# Altium schematic symbol library Sensor_1.SchLib: 17 symbols
Pins are listed as number, name and electrical type; pins without a type are passive.

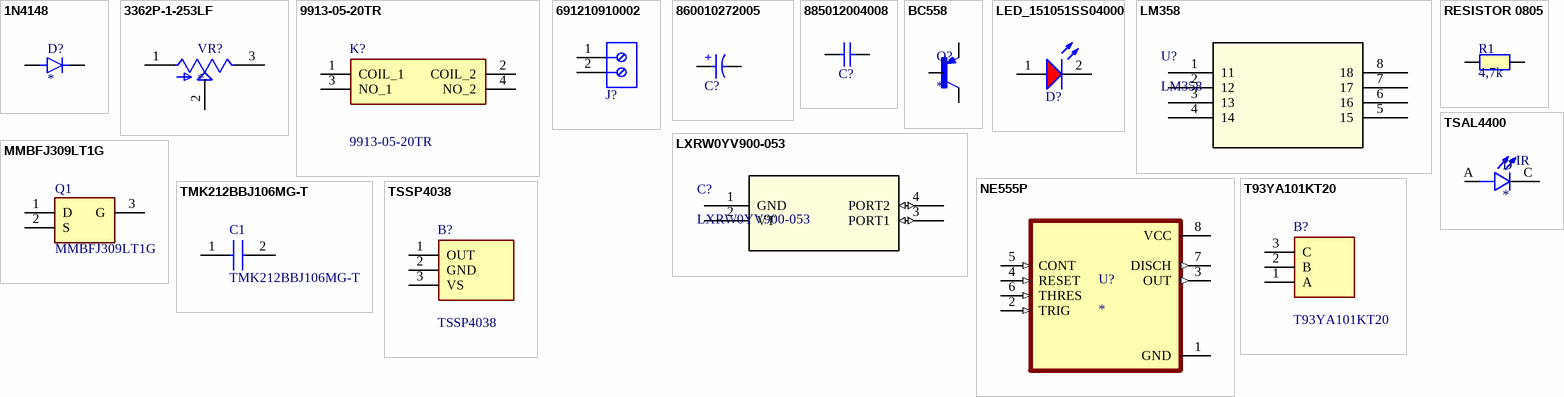
[diagram p0: symbols 1N4148 to TSSP4038]

## 1N4148
designator D?
Diode Standard 75V 200mA Surface Mount SOD-523F; MP: 1N4148; MF: ON Semiconductor; Price: None; Availability: In Stock; Package: AXIAL LEAD-2 ON Semiconductor; Value: *; SnapEDA_Link: https://www.snapeda.com/parts/1N4148/Onsemi/view-part/?ref=snap; Purchase-URL: https://pricing.snapeda.com/search/part/1N4148/?ref=eda; Check_prices: https://www.snapeda.com/parts/1N4148/Onsemi/view-part/?ref=eda
footprint DIOAD829W49L456D191
pins: A, C

## 3362P-1-253LF
designator VR?
25 kOhms 0.5W, 1/2W PC Pins Through Hole Trimmer Potentiometer Cermet 1 Turn Top Adjustment; MF: Bourns; MP: 3362P-1-253LF; Check_prices: https://www.snapeda.com/parts/3362P-1-253LF/Bourns/view-part/493663/?ref=eda; SnapEDA_Link: https://www.snapeda.com/parts/3362P-1-253LF/Bourns/view-part/493663/?ref=snap; Availability: Good; Value: *; Purchase-URL: https://pricing.snapeda.com/search/part/3362P-1-253LF/?ref=eda; Price: None; Package: 3116 Bourns
footprint TRIM_3362P-1-253LF
pins: 1 CCW, 2 WIPER, 3 CW

## 9913-05-20TR
designator K?
RELAY STANDARD REED, 5V, 200 OHMS, J FORM, TR. / TAPE-REEL; Manufacturer_Name: Coto Technology; Geometry.Height: 3.61mm; Mouser Part Number: 816-9913-05-20TR; Mouser Price/Stock: https://www.mouser.co.uk/ProductDetail/Coto-Technology/9913-05-20TR?qs=BJlw7L4Cy7%2Ft0vFUsUT%2FEw%3D%3D; Manufacturer_Part_Number: 9913-05-20TR; Datasheet Link: https://componentsearchengine.com/Datasheets/1/9913-05-20TR.pdf
footprint 99130520TR
pins: 1 COIL_1, 2 COIL_2, 3 NO_1, 4 NO_2

## 691210910002
designator J?  (value not drawn)
WR-TBL Series 2109 Horizontal Entry, THT, pitch 2.54mm, 2p; Manufacturer: Wurth Elektronik; Modularity: No; Rated Current: 6A; Working Voltage: 150V; ComponentLink1Description: Website Link; ComponentLink1URL: https://www.we-online.com/redexpert/article/691210910002?ad; ComponentLink2Description: Datasheet Link; ComponentLink2URL: https://www.we-online.com/redexpert/spec/691210910002?ad; Manufacturer Part Number: 691210910002; Category: Terminal Blocks; Match Code: WR-TBL; Mount: Through Hole; Operating Temperature Max: 105°C; Operating Temperature Min: -40°C; Packaging: Box; Application: Rising Cage Clamp; Number of Pins: 2; Number of Rows: 1; Orientation: Horizontal; Pitch: 2.54mm
footprint 691210910002 (2,54mm - modular - green - Horizontal wire entry - Cage clamp - 0,8mm2 wires - 02p)
pins: 1, 2

## 860010272005
designator C?, comment 100µF  (value not drawn)
WCAP-ATG8 Aluminum Electrolytic Capacitor, Radial, THT, D5 x H11mm, 100µF, 10V; Manufacturer Part Number: 860010272005; Manufacturer: Wurth Elektronik; Capacitance Tolerance: +/-20%; Dissipation Factor: 19%; Endurance: 2000h; Leakage Current: 10µA; Ripple Current: 198mA; Technical Reference: ATBC110101M010DSPA3B000; Category: Aluminum Electrolytic Capacitors; Match Code: WCAP-ATG8; ComponentLink1Description: Website Link; ComponentLink1URL: https://www.we-online.com/redexpert/article/860010272005?ad; ComponentLink2Description: Datasheet Link; ComponentLink2URL: https://www.we-online.com/redexpert/spec/860010272005?ad; Mount: Through Hole; Operating Temperature Max: 85°C; Operating Temperature Min: -40°C; Packaging: Ammo Pack; Height: 11mm; Diameter: 5mm; Capacitance: 100µF; Rated Voltage (DC): 10V
footprint WCAP-ATG8_D5H11 (Aluminum Electrolytic Capacitors, 5x11mm)
simulation model 860010272005_100uF
pins: 1 P, 2 N
text: +

## 885012004008
designator C?, comment 22pF  (value not drawn)
WCAP-CSGP Multilayer Ceramic Chip Capacitor, General Purpose, size 0201, NP0 Class I, 22pF, 25VDC; Manufacturer Part Number: 885012004008; Manufacturer: Wurth Elektronik; Case/Size Code: 0201; Capacitance Tolerance: +/-5%; Insulation Resistance: 10GΩ; Q Factor: 840; Rated Voltage (DC): 25V; Technical Reference: NP00201220J025DFCT10000; Category: Multilayer Ceramic Chip Capacitors; Match Code: WCAP-CSGP; ComponentLink1Description: Website Link; ComponentLink1URL: https://www.we-online.com/redexpert/article/885012004008?ad; ComponentLink2Description: Datasheet Link; ComponentLink2URL: https://www.we-online.com/redexpert/spec/885012004008?ad; Mount: Surface Mount; Operating Temperature Max: 125°C; Operating Temperature Min: -55°C; Packaging: Tape and Reel; Length: 0.6mm; Width: 0.3mm; Height: 0.3mm; Capacitance: 22pF; Ceramic Type: NP0 Class I
footprint WCAP-CSGP_0805_L2W1.25H0.8_Wave (Ceramic Capacitors, body 2x1.25mm)
simulation model 0201_885012004008_22pF
pins: 1, 2

## BC558
designator Q?
Bipolar (BJT) Transistor PNP 30 V 100 mA 360MHz 625 mW Through Hole TO-92 (TO-226); MP: BC558; MF: ON; Price: None; Availability: In Stock; Package: TO-226-3 Diotec Semiconductor; SnapEDA_Link: https://www.snapeda.com/parts/BC558/Onsemi/view-part/?ref=snap; Check_prices: https://www.snapeda.com/parts/BC558/Onsemi/view-part/?ref=eda; Value: *; Purchase-URL: https://pricing.snapeda.com/search/part/BC558/?ref=eda
pins: 1 C, 2 B, 3 E

## LED_151051SS04000
designator D?, comment Super Red, 2.1V, 40°  (value not drawn)
WL-TMRC Mono-color Round Color, THT, D5.9 x H8.7mm, Super Red, 2.1V, 40°; Manufacturer Part Number: 151051SS04000; Manufacturer: Wurth Elektronik; Case/Size Code: 5mm; Chip Technology: AlInGaP; Dominant Wavelength: 635nm; Luminous Intensity: 250mcd; Peak Wavelength: 640nm; Category: Signal LEDs; Match Code: WL-TMRC; ComponentLink1Description: Website Link; ComponentLink1URL: https://www.we-online.com/redexpert/article/151051SS04000?ad; ComponentLink2Description: Datasheet Link; ComponentLink2URL: https://www.we-online.com/redexpert/spec/151051SS04000?ad; Mount: Through Hole; Operating Temperature Max: 85°C; Operating Temperature Min: -40°C; Packaging: Bulk; Height: 8.7mm; Diameter: 5.9mm; Emitting Color: Super Red; Forward Voltage: 2.1V; Viewing Angle: 40°
footprint WL-TMRC_D5.9H8.7 (THT Mono-color Round Color LED, 2-leads)
simulation model 5mm_151051SS04000
pins: 1 A, 2 K

## LM358
designator U?
Texas instruments LM358 opamp; Copyright: Copyright (C) 2023 Ultra Librarian. All rights reserved.; Mfr_Name: Texas Instruments; Manufacturer_Part_Number: LM358; RefDes: RefDes; Type: DEV
footprint DIP8_300
pins: 1 11, 2 12, 3 13, 4 14, 5 15, 6 16, 7 17, 8 18

## LXRW0YV900-053
designator C?
Cap trimmer (variable capacitor); Mfr_Name: Murata; Type: DEV; Copyright: Copyright (C) 2023 Ultra Librarian. All rights reserved.; Manufacturer_Part_Number: LXRW0YV900-053; Digi-Key_Part_Number_1: 490-18380-2-ND; Digi-Key_Part_Number_2: 490-18380-1-ND; Digi-Key_Part_Number_3: 490-18380-6-ND; RefDes: RefDes
footprint LXRW-0Y_MUR-M
pins: 1 GND, 2 VT, 3 PORT1 (io), 4 PORT2 (io)

## MMBFJ309LT1G
designator Q1
Transistor; Manufacturer_Name: onsemi; Datasheet Link: http://www.onsemi.com/pub/Collateral/MMBFJ309LT1-D.PDF; Height: 1.11mm; Manufacturer_Part_Number: MMBFJ309LT1G; Mouser Part Number: 863-MMBFJ309LT1G; Mouser Price/Stock: https://www.mouser.co.uk/ProductDetail/onsemi/MMBFJ309LT1G?qs=HVbQlW5zcXXpftXEfcBAsg%3D%3D; Arrow Part Number: MMBFJ309LT1G; Arrow Price/Stock: https://www.arrow.com/en/products/mmbfj309lt1g/on-semiconductor
footprint SOT96P237X111-3N
pins: 1 D, 2 S, 3 G

## NE555P
designator U?
MP: NE555P; Package: None; Price: None; Value: *; Availability: Unavailable
footprint DIP794W45P254L959H508Q8
pins: 1 GND (power), 2 TRIG (in), 3 OUT (out), 4 RESET (in), 5 CONT (in), 6 THRES (in), 7 DISCH (out), 8 VCC (power)

## RESISTOR 0805
designator R1, comment 4,7k
4,7k Resistor 0805; Part Number: TNPW080510K0BETA; Manufacturer: Vishay Dale
footprint RESC2012X50N
footprint RESC2012X50N
pins: 1, 2
1 alternate drawing of the same symbol

## T93YA101KT20
designator B?
100, Through Hole Trimmer Potentiometer 0.5W Top Adjust Vishay, T93; Geometry.Height: 9mm; Mouser Part Number: 72-T93YA-100; Mouser Price/Stock: https://www.mouser.co.uk/ProductDetail/Vishay-Sfernice/T93YA101KT20?qs=iVq8I%252Bwveq19HOEubYKU9A%3D%3D; Manufacturer_Name: Vishay; Manufacturer_Part_Number: T93YA101KT20; Datasheet Link: https://www.vishay.com/docs/51026/t93.pdf
footprint T93YA5K10
pins: 1 A, 2 B, 3 C

## TMK212BBJ106MG-T
designator C1
Capacitor; Manufacturer_Name: TAIYO YUDEN; Datasheet Link: https://ds.yuden.co.jp/TYCOMPAS/ut/download?pn=LMK063BBJ474MPLF&fileType=CA; Height: 1.45mm; Manufacturer_Part_Number: TMK212BBJ106MG-T; Mouser Part Number: 963-TMK212BBJ106MG-T; Mouser Price/Stock: https://www.mouser.co.uk/ProductDetail/Taiyo-Yuden/TMK212BBJ106MG-T?qs=lkMpTOwszhd%2F%252Bg1AlFV9dw%3D%3D
footprint CAPC2012X65N
pins: 1, 2

## TSAL4400
designator D
Infrared Emitter 940nm 36mW/sr Circular Top Mount 2-Pin T-1 Bulk; MF: Vishay Semiconductor; MP: TSAL4400; Package: Radial Vishay; Price: None; SnapEDA_Link: https://www.snapeda.com/parts/TSAL4400/Vishay%20Semiconductor%20Opto%20Division/view-part/3623381/?ref=snap; Value: *; Availability: Unavailable
footprint LEDRD254W45D335H610
pins: A, C
text: IR

## TSSP4038
designator B?
IR Receiver Module 38KHz 25m EMI 3-Pin Vishay TSSP4038, 38kHz IR Receiver, 950nm +/-45 , 25m Range, 2.5V - 5V, Through Hole, 6 x 3.9 x 6.95mm; Mouser Part Number: 782-TSSP4038; Mouser Price/Stock: https://www.mouser.co.uk/ProductDetail/Vishay-Semiconductors/TSSP4038?qs=lgjwDzixuo3Ja5hn%252BEmOdw%3D%3D; Manufacturer_Name: Vishay; Manufacturer_Part_Number: TSSP4038; Datasheet Link: https://componentsearchengine.com/Datasheets/2/TSSP4038.pdf
footprint TSSP4038
pins: 1 OUT, 2 GND, 3 VS